# Altium footprint library SnapEDApcb.PcbLib: 1 footprints
Each footprint in its own frame and in the unit in brackets; x right, y up, seen from the top. Pads: shape width x height; smd on the part's side, far side on the other; paste and mask are expansions set on the pad; w line width, h text height; cw(c..) or ccw(c..) is an arc to the next point about the centre after c.
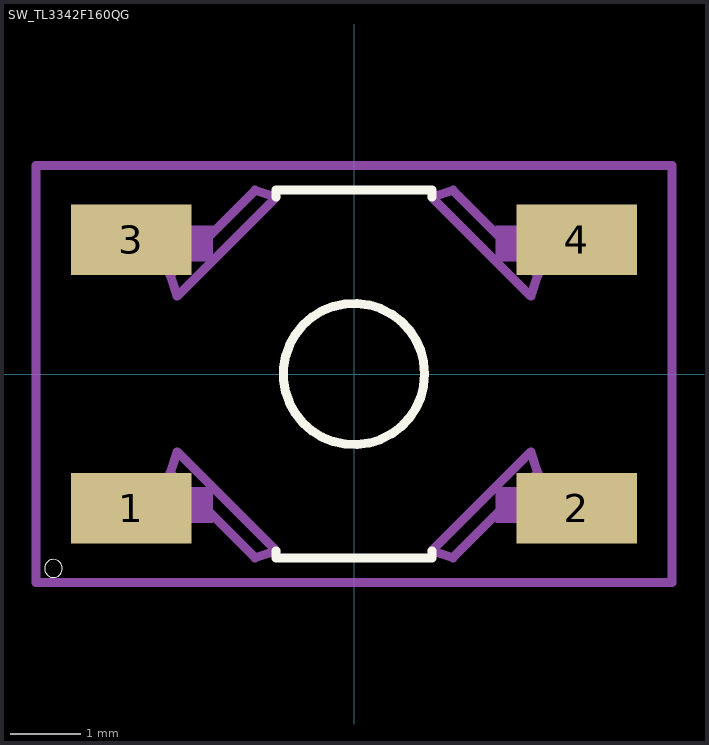
[diagram p0: the footprint, top view; thin cyan lines are the x and y axes]

## SW_TL3342F160QG [mm]
pads (4):
  rect 1.7x1 smd: 1(-3.15,-1.9) 2(3.15,-1.9) 3(-3.15,1.9) 4(3.15,1.9)
Top Overlay:
  circle w0: c-4.25,-2.75 r0.127
  circle w0.127: c0,0 r1
  lines w0.127: -1.1,-2.5 -1.1,-2.6 1.1,-2.6 1.1,-2.5 ; -1.1,2.5 -1.1,2.6 1.1,2.6 1.1,2.5
Mechanical 13:
  region: 3.205,-2.107 2.007,-2.107 2.007,-1.605 3.205,-1.605
  region: -1.995,-2.106 -3.196,-2.106 -3.196,-1.605 -1.995,-1.605
  region: 3.205,1.597 2.008,1.597 2.008,2.095 3.205,2.095
  region: -1.995,1.597 -3.199,1.597 -3.199,2.095 -1.995,2.095
  lines w0.127: -2.6,-1.4 -2.5,-1.1 -1.1,-2.5 -1.4,-2.6 -2.6,-1.4 ; -2.6,1.4 -2.5,1.1 -1.1,2.5 -1.4,2.6 -2.6,1.4 ; 1.1,-2.5 1.4,-2.6 2.6,-1.4 2.5,-1.1 1.1,-2.5 ; 1.1,2.5 1.4,2.6 2.6,1.4 2.5,1.1 1.1,2.5
Mechanical 15:
  lines w0.127: -4.5,-2.95 -4.5,2.95 4.5,2.95 4.5,-2.95 -4.5,-2.95
3D body "TL3342F160QG--3DModel-STEP-520916.STEP": height 1.46, standoff -0.04, extent -3.3,-2.5 3.3,2.5